# Altium footprint library PcbLib1.PcbLib: 21 footprints (part 1 of 2)
Each footprint in its own frame and in the unit in brackets; x right, y up, seen from the top. Pads: shape width x height; smd on the part's side, far side on the other; paste and mask are expansions set on the pad; w line width, h text height; cw(c..) or ccw(c..) is an arc to the next point about the centre after c.
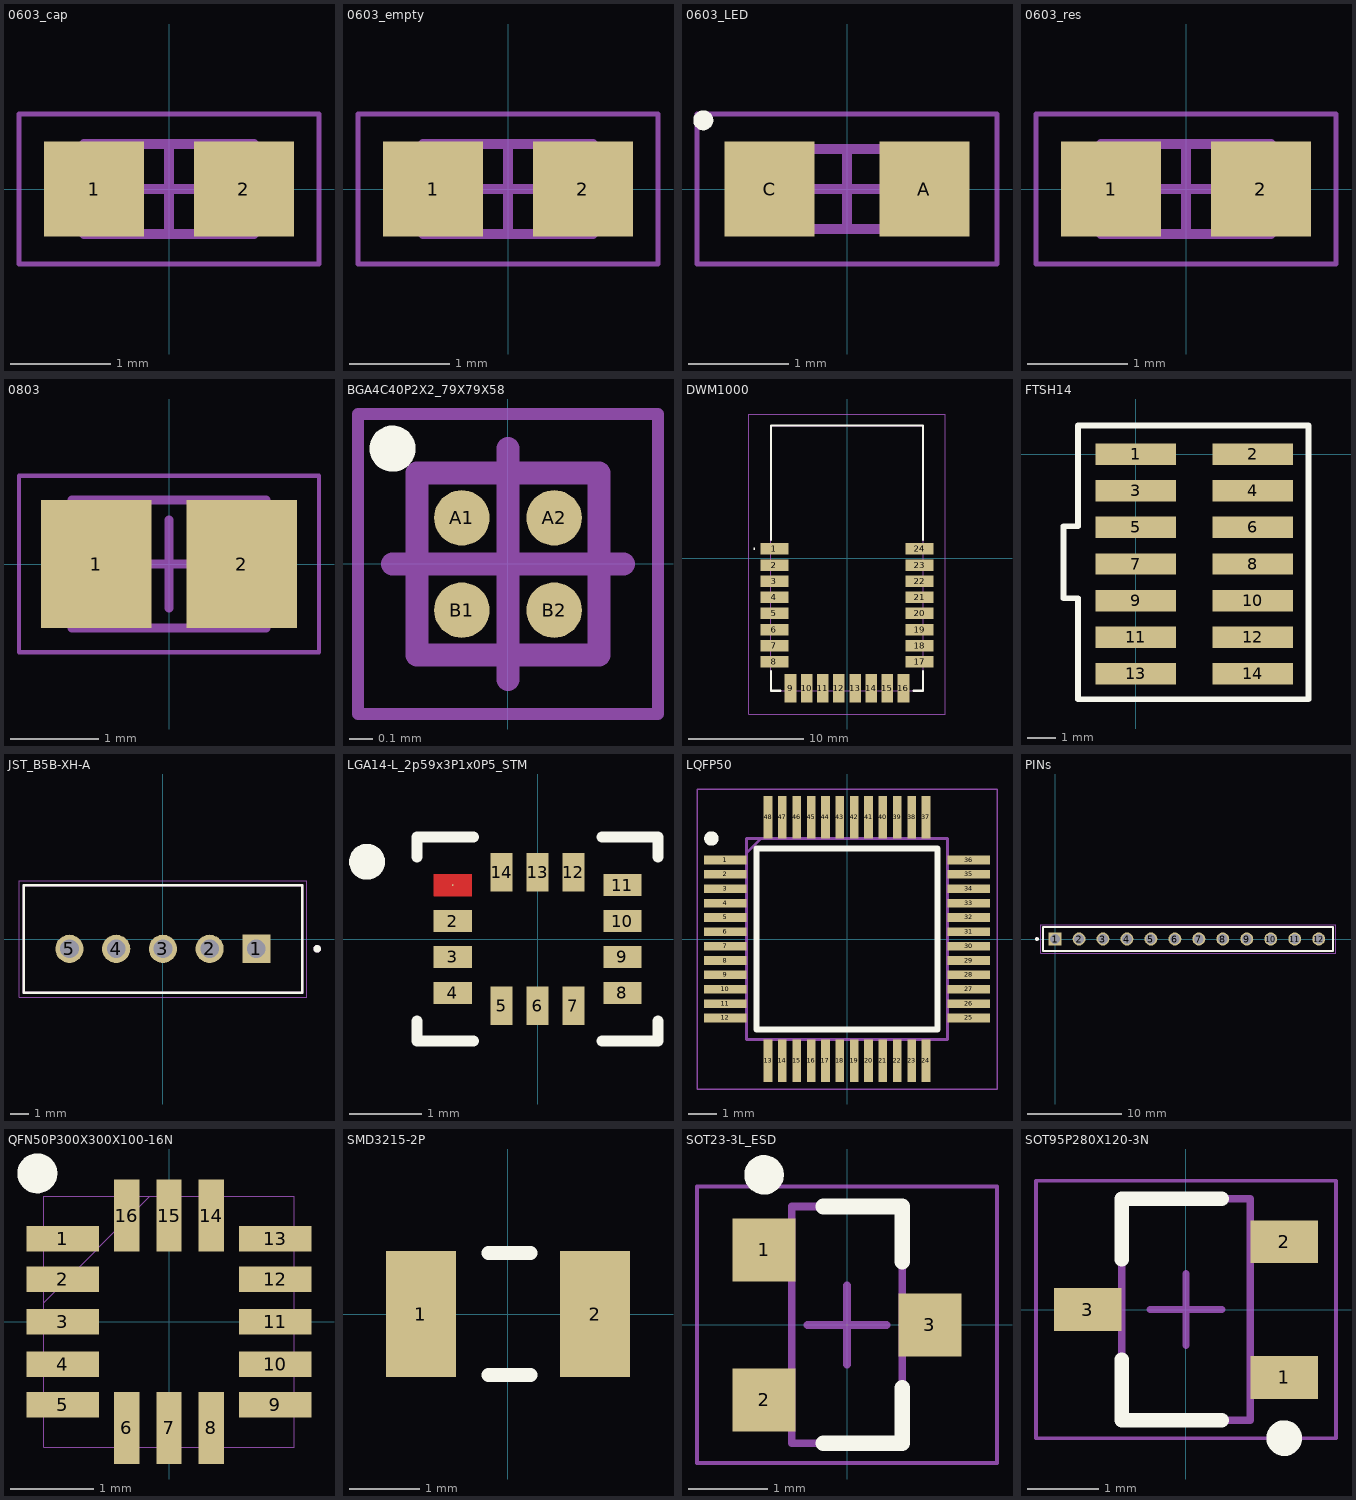
[diagram p0: the footprints below, top view; thin cyan lines are the x and y axes]

## 0603_cap [mm] "2-Leads, Body 1,60x0,80mm, IPC Medium Density"
height 0.8
pads (2):
  rect 1x0.95 smd: 1(-0.75,0) 2(0.75,0)
Mechanical 13:
  lines w0.1: -0.85,-0.45 0.85,-0.45 0.85,0.45 -0.85,0.45 -0.85,-0.45
Mechanical 15:
  lines w0.05: -1.5,-0.75 1.5,-0.75 1.5,0.75 -1.5,0.75 -1.5,-0.75
  lines w0.1: -0.45,0 0.45,0 ; 0,-0.45 0,0.45
3D body "CC0603JRNPO0BN360.STEP": height 0.8, standoff 0, extent -0.8,-0.45 0.8,0.45

## 0603_empty [mm] "2-Leads, Body 1,60x0,80mm, IPC Medium Density"
height 0.8
pads (2):
  rect 1x0.95 smd: 1(-0.75,0) 2(0.75,0)
Mechanical 13:
  lines w0.1: -0.85,-0.45 -0.85,0.45 0.85,0.45 0.85,-0.45 -0.85,-0.45
Mechanical 15:
  lines w0.05: -1.5,-0.75 -1.5,0.75 1.5,0.75 1.5,-0.75 -1.5,-0.75
  lines w0.1: -0.45,0 0.45,0 ; 0,-0.45 0,0.45

## 0603_LED [mm] "Chip Diode, 2-Leads, Body 1,60x0,80mm, IPC Medium Density"
height 0.2
pads (2):
  rect 0.9x0.95 smd: A(0.775,0) C(-0.775,0)
Top Overlay:
  circle w0.1: c-1.437,0.687 r0.05
Top Assembly:
  lines w0.1: -0.8,-0.4 0.8,-0.4 0.8,0.4 -0.8,0.4 -0.8,-0.4
Mechanical 15:
  lines w0.05: -1.5,-0.75 1.5,-0.75 1.5,0.75 -1.5,0.75 -1.5,-0.75
  lines w0.1: -0.4,0 0.4,0 ; 0,-0.4 0,0.4
3D body "SM0603UYC--3DModel-STEP-510211.STEP": height 0.6, standoff 0, extent -0.8,-0.4 0.8,0.4

## 0603_res [mm] "2-Leads, Body 1,60x0,80mm, IPC Medium Density"
height 0.8
pads (2):
  rect 1x0.95 smd: 1(-0.75,0) 2(0.75,0)
Mechanical 13:
  lines w0.1: -0.85,-0.45 0.85,-0.45 0.85,0.45 -0.85,0.45 -0.85,-0.45
Mechanical 15:
  lines w0.05: -1.5,-0.75 1.5,-0.75 1.5,0.75 -1.5,0.75 -1.5,-0.75
  lines w0.1: -0.45,0 0.45,0 ; 0,-0.45 0,0.45
3D body "SG73P1JTTD1003F.STEP": height 0.55, standoff 0, extent -0.8,-0.4 0.8,0.4

## 0803 [mm] "Chip Capacitor, 2-Leads, Body 2,00x1,25mm, IPC Medium Density"
height 1.45
pads (2):
  rect 1.25x1.45 smd: 1(-0.825,0) 2(0.825,0)
Top Assembly:
  lines w0.1: -1.1,-0.725 1.1,-0.725 1.1,0.725 -1.1,0.725 -1.1,-0.725
Mechanical 15:
  lines w0.05: -1.7,-1 1.7,-1 1.7,1 -1.7,1 -1.7,-1
  lines w0.1: -0.5,0 0.5,0 ; 0,-0.5 0,0.5
3D body "CAPC2012X14N.step": height 1.45, standoff 0, extent -1.1,-0.725 1.1,0.725

## BGA4C40P2X2_79X79X58 [mm] "BGA, 4-Leads, Body 0,79x0,79mmx0,58mm, Pitch 0,40mm"
height 0.58
pads (4):
  round 0.24 smd mask+0.025: A1(-0.2,0.2) A2(0.2,0.2) B1(-0.2,-0.2) B2(0.2,-0.2)
Top Overlay:
  circle w0.1: c-0.5,0.5 r0.05
Top Assembly:
  lines w0.1: -0.395,-0.395 0.395,-0.395 0.395,0.395 -0.395,0.395 -0.395,-0.395
Mechanical 15:
  lines w0.05: -0.65,-0.65 0.65,-0.65 0.65,0.65 -0.65,0.65 -0.65,-0.65
  lines w0.1: -0.5,0 0.5,0 ; 0,-0.5 0,0.5
3D body "BGA4C40P2X2_79X79X58.step": height 0.58, standoff 0, extent -0.395,-0.395 0.395,0.395

## DWM1000 [mm]
pads (24):
  rect 2.45x1 smd: 1(-6.295,0.8) 2(-6.295,-0.6) 3(-6.295,-2) 4(-6.295,-3.4) 5(-6.295,-4.8) 6(-6.295,-6.2) 7(-6.295,-7.6) 8(-6.295,-9) 17(6.295,-9) 18(6.295,-7.6) 19(6.295,-6.2) 20(6.295,-4.8) 21(6.295,-3.4) 22(6.295,-2) 23(6.295,-0.6) 24(6.295,0.8)
  rect 1x2.45 smd: 9(-4.9,-11.295) 10(-3.5,-11.295) 11(-2.1,-11.295) 12(-0.7,-11.295) 13(0.7,-11.295) 14(2.1,-11.295) 15(3.5,-11.295) 16(4.9,-11.295)
Top Overlay:
  lines w0.1: -8.1,0.8 cw(c-8.05,0.8) -8,0.8 cw(c-8.05,0.8) -8.1,0.8
  lines w0.2: -6.6,-9.8 -6.6,-11.5 -5.8,-11.5 ; -6.6,1.6 -6.6,11.5 6.6,11.5 6.6,1.6 ; 5.8,-11.5 6.6,-11.5 6.6,-9.8
Mechanical 15:
  lines w0.1: -6.6,-11.5 6.6,-11.5 6.6,11.5 -6.6,11.5 -6.6,-11.5
Mechanical 20:
  lines w0.1: -8.52,-13.52 8.52,-13.52 8.52,12.5 -8.52,12.5 -8.52,-13.52
3D body "DWM1000.stp": height 3.15, standoff 0, extent -6.6,-11.5 6.6,11.5

## FTSH14 [mm]
pads (14):
  rect 2.79x0.74 smd: 1(0,0) 2(4.07,0) 3(0,-1.27) 4(4.07,-1.27) 5(0,-2.54) 6(4.07,-2.54) 7(0,-3.81) 8(4.07,-3.81) 9(0,-5.08) 10(4.07,-5.08) 11(0,-6.35) 12(4.07,-6.35) 13(0,-7.62) 14(4.07,-7.62)
Top Overlay:
  lines w0.2: -2.5,-5 -2,-5 -2,-8.5 6,-8.5 6,1 -2,1 -2,-2.5 -2.5,-2.5 -2.5,-5
3D body "FTSH-107-01-LM-DV-K.stp": height 6.11, standoff -0.01, extent -0.921,-8.245 4.921,0.645

## JST_B5B-XH-A [mm]
height 7
pads (5):
  rect 1.508x1.508 / inner round 1.508 / far side rect 1.508x1.508 hole 1: 1(5,-0.525)
  round 1.508 hole 1: 2(2.5,-0.525) 3(0,-0.525) 4(-2.5,-0.525) 5(-5,-0.525)
Top Overlay:
  circle w0.2: c8.25,-0.525 r0.1
  lines w0.127: -7.45,-2.875 7.45,-2.875 7.45,2.875 -7.45,2.875 -7.45,-2.875
Mechanical 13:
  circle w0.2: c8.25,-0.525 r0.1
  lines w0.127: -7.45,-2.875 7.45,-2.875 7.45,2.875 -7.45,2.875 -7.45,-2.875
Mechanical 15:
  lines w0.05: -7.7,-3.125 7.7,-3.125 7.7,3.125 -7.7,3.125 -7.7,-3.125
3D body "step_temp.STEP": height 7, standoff -3.4, extent -7.45,-2.875 7.45,2.875

## LGA14-L_2p59x3P1x0P5_STM [mil]
pads (14):
  round 1 smd paste+0 mask+0: 1(-46.5,29.53)
  rect 21x12 smd paste+0 mask+0: 2(-46.5,9.84) 3(-46.5,-9.84) 4(-46.5,-29.53) 8(46.5,-29.53) 9(46.5,-9.84) 10(46.5,9.84) 11(46.5,29.53)
  rect 12x21 smd paste+0 mask+0: 5(-19.68,-36.5) 6(0,-36.5) 7(19.68,-36.5) 12(19.68,36.5) 13(0,36.5) 14(-19.68,36.5)
Top Layer:
  region: -36,35.53 -57,35.53 -57,23.53 -36,23.53
Top Overlay:
  circle w9.84: c-93.5,42.32 r4.92
  lines w6: -66,-45.05 -66,-56 -35.2,-56 ; -66,45.05 -66,56 -35.2,56 ; 35.2,-56 66,-56 66,-45.05 ; 35.2,56 66,56 66,45.05
3D body "LGA14-L_2P59X3P1X0P5_STM.step": height 34.09, standoff 0, extent -60.98,-50.98 60.98,50.98

## LQFP50 [mm]
pads (48):
  rect 1.475x0.3 smd: 1(-4.238,2.75) 2(-4.238,2.25) 3(-4.238,1.75) 4(-4.238,1.25) 5(-4.238,0.75) 6(-4.238,0.25) 7(-4.238,-0.25) 8(-4.238,-0.75) 9(-4.238,-1.25) 10(-4.238,-1.75) 11(-4.238,-2.25) 12(-4.238,-2.75) 25(4.238,-2.75) 26(4.238,-2.25) 27(4.238,-1.75) 28(4.238,-1.25) 29(4.238,-0.75) 30(4.238,-0.25) 31(4.238,0.25) 32(4.238,0.75) 33(4.238,1.25) 34(4.238,1.75) 35(4.238,2.25) 36(4.238,2.75)
  rect 0.3x1.475 smd: 13(-2.75,-4.238) 14(-2.25,-4.238) 15(-1.75,-4.238) 16(-1.25,-4.238) 17(-0.75,-4.238) 18(-0.25,-4.238) 19(0.25,-4.238) 20(0.75,-4.238) 21(1.25,-4.238) 22(1.75,-4.238) 23(2.25,-4.238) 24(2.75,-4.238) 37(2.75,4.238) 38(2.25,4.238) 39(1.75,4.238) 40(1.25,4.238) 41(0.75,4.238) 42(0.25,4.238) 43(-0.25,4.238) 44(-0.75,4.238) 45(-1.25,4.238) 46(-1.75,4.238) 47(-2.25,4.238) 48(-2.75,4.238)
Top Overlay:
  circle w0.25: c-4.725,3.5 r0.125
  lines w0.2: -3.15,-3.15 -3.15,3.15 3.15,3.15 3.15,-3.15 -3.15,-3.15
Mechanical 15:
  lines w0.1: -3.5,3 -3,3.5 ; -3.5,-3.5 -3.5,3.5 3.5,3.5 3.5,-3.5 -3.5,-3.5
Mechanical 20:
  lines w0.05: -5.225,-5.225 -5.225,5.225 5.225,5.225 5.225,-5.225 -5.225,-5.225
3D body "STM32U073CCT6.stp": height 1.6, standoff 0, extent -4.5,-4.5 4.5,4.5

## PINs [mm]
pads (12):
  rect 1.37x1.37 hole 1.02: 1(0,0)
  round 1.37 hole 1.02: 2(2.54,0) 3(5.08,0) 4(7.62,0) 5(10.16,0) 6(12.7,0) 7(15.24,0) 8(17.78,0) 9(20.32,0) 10(22.86,0) 11(25.4,0) 12(27.94,0)
Top Overlay:
  circle w0.2: c-1.92,0 r0.1
  lines w0.2: 29.45,-1.27 -1.27,-1.27 -1.27,1.27 29.45,1.27 ; 29.465,-1.27 29.465,-0.635 29.465,0.635 29.465,1.27
Mechanical 13:
  circle w0.2: c-1.92,0 r0.1
  lines w0.1: -1.27,-1.27 29.45,-1.27 29.45,1.27 -1.27,1.27 -1.27,-1.27
Mechanical 15:
  lines w0.05: -1.52,-1.52 29.775,-1.52 29.775,1.52 -1.52,1.52 -1.52,-1.52

## QFN50P300X300X100-16N [mil]
pads (16):
  rect 34x12 smd mask+0: 1(-50,39) 2(-50,20) 3(-50,0) 4(-50,-20) 5(-50,-39) 9(50,-39) 10(50,-20) 11(50,0) 12(50,20) 13(50,39)
  rect 12x34 smd mask+0: 6(-20,-50) 7(0,-50) 8(20,-50) 14(20,50) 15(0,50) 16(-20,50)
Top Overlay:
  circle w10: c-62.01,69.88 r4.4
Mechanical 13:
  lines w0: -59,-45 -59,-33 ; -59,-26 -59,-14 ; -59,-6 -59,6 ; -59,9 -9,59 ; -59,14 -59,26 ; -59,33 -59,45 ; -26,-59 -14,-59 ; -26,59 -14,59 ; -6,-59 6,-59 ; -6,59 6,59 ; 14,-59 26,-59 ; 14,59 26,59 ; 59,-45 59,-33 ; 59,-26 59,-14 ; 59,-6 59,6 ; 59,14 59,26 ; 59,33 59,45 ; -59,-59 -59,59 59,59 59,-59 -59,-59
3D body "MMA8451QR1.STEP": height 39.37, standoff 0, extent -59.06,-59.06 59.06,59.06

## SMD3215-2P [mm]
pads (2):
  rect 1x1.8 smd mask+0.102: 1(-1.245,0)
  rect 1x1.8 smd: 2(1.25,0)
Top Overlay:
  lines w0.2: -0.275,-0.875 0.325,-0.875 ; -0.275,0.875 0.325,0.875
3D body "XT1312HHRXX32K76E.stp": height 0.81, standoff 0, extent -1.6,-0.75 1.6,0.75

## SOT23-3L_ESD [mm] "SOT23, 3-Leads, Body 2,90x2,40mm, Pitch 0,95mm, IPC Medium Density"
height 1.15
pads (3):
  rect 0.8x0.8 smd: 1(-1.05,0.95) 2(-1.05,-0.95) 3(1.05,0)
Top Overlay:
  circle w0.25: c-1.05,1.9 r0.125
  lines w0.2: -0.3,-1.5 0.7,-1.5 0.7,-0.8 ; -0.3,1.5 0.7,1.5 0.7,0.8
Top Assembly:
  lines w0.1: -0.7,-1.5 -0.7,1.5 0.7,1.5 0.7,-1.5 -0.7,-1.5
Mechanical 15:
  lines w0.05: -1.9,-1.75 -1.9,1.75 1.9,1.75 1.9,-1.75 -1.9,-1.75
  lines w0.1: -0.5,0 0.5,0 ; 0,-0.5 0,0.5
3D body "SM712.TCT.stp": height 1.12, standoff 0, extent -1.185,-1.46 1.185,1.46

## SOT95P280X120-3N [mm] "SOT23, 3-Leads, Body 2,90x2,80mm, Pitch 0,95mm, IPC Medium Density"
height 1.2
pads (3):
  rect 0.95x0.6 smd: 1(1.375,-0.95) 2(1.375,0.95) 3(-1.375,0)
Top Overlay:
  circle w0.25: c1.375,-1.8 r0.125
  lines w0.2: -0.9,-0.7 -0.9,-1.55 0.5,-1.55 ; -0.9,0.7 -0.9,1.55 0.5,1.55
Top Assembly:
  lines w0.1: -0.9,-1.55 -0.9,1.55 0.9,1.55 0.9,-1.55 -0.9,-1.55
Mechanical 15:
  lines w0.05: -2.1,-1.8 -2.1,1.8 2.1,1.8 2.1,-1.8 -2.1,-1.8
  lines w0.1: -0.5,0 0.5,0 ; 0,-0.5 0,0.5
3D body "XC6206P332MR-G.STEP": height 1.3, standoff 0, extent -1.4,-1.45 1.4,1.45